# Altium footprint library PcbLib1.PcbLib: 8 footprints
Each footprint in its own frame and in the unit in brackets; x right, y up, seen from the top. Pads: shape width x height; smd on the part's side, far side on the other; paste and mask are expansions set on the pad; w line width, h text height; cw(c..) or ccw(c..) is an arc to the next point about the centre after c.
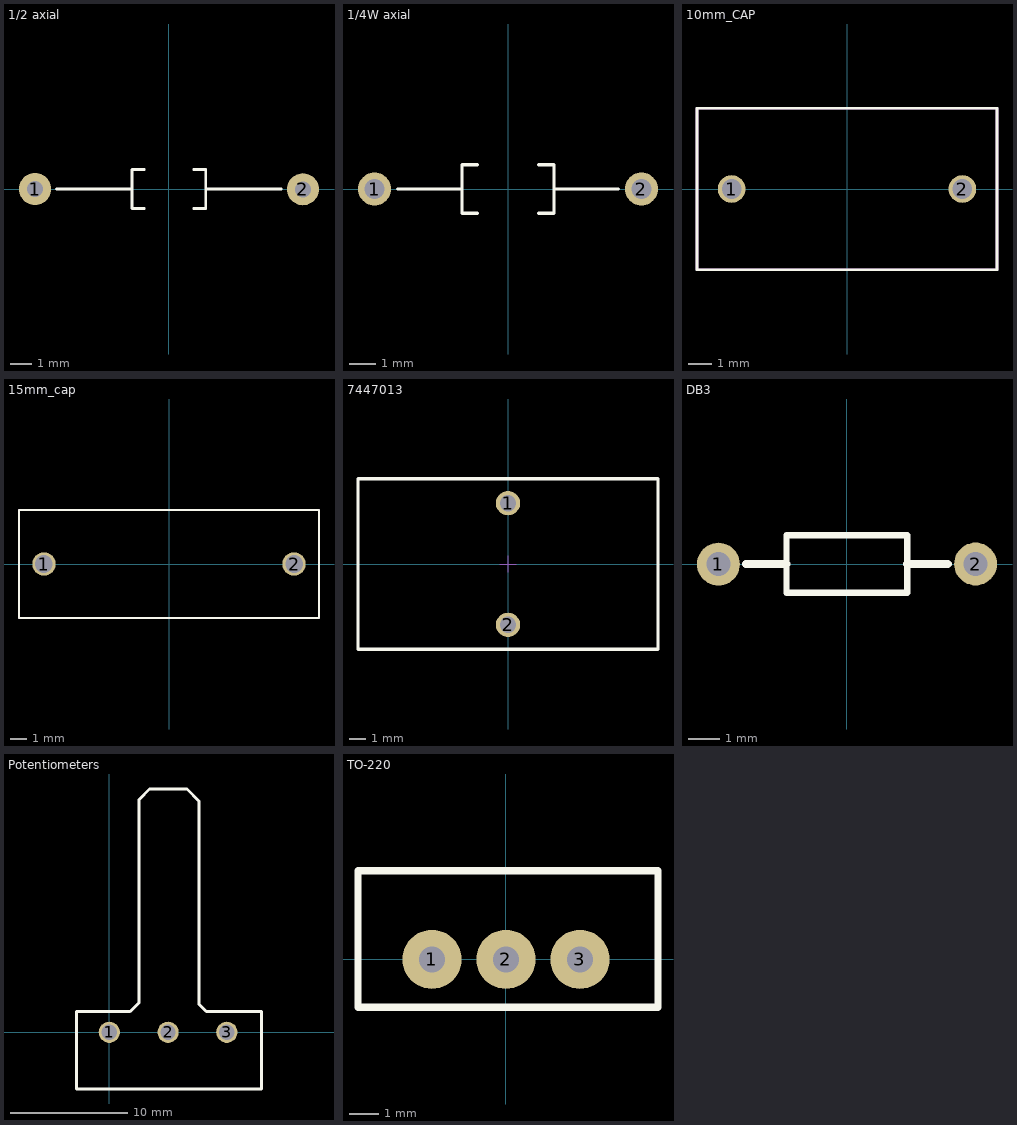
[diagram p0: the footprints below, top view; thin cyan lines are the x and y axes]

## 1/2 axial [mil]
pads (2):
  round 60 hole 30: 1(-250,0) 2(250.27,-0.55)
Top Overlay:
  lines w5: -210,0 -68.9,0 ; -46.06,-36.42 -68.9,-36.42 -68.9,0 ; -46.06,36.42 -68.9,36.42 -68.9,0 ; 46.06,-36.42 68.9,-36.42 68.9,0 ; 46.06,36.42 68.9,36.42 68.9,0 ; 210,0 68.9,0
3D body "User Library-Res50-Axial 0_5W-2_2M.STEP": height 148.14, standoff -220.96, extent -264.76,-73.82 264.76,73.82

## 1/4W axial [mm]
pads (2):
  round 1.258 hole 0.75: 1(-5.08,0) 2(5.08,0)
Top Overlay:
  lines w0.127: -4.191,0 -1.75,0 ; -1.17,-0.925 -1.75,-0.925 -1.75,0 ; -1.17,0.925 -1.75,0.925 -1.75,0 ; 1.17,-0.925 1.75,-0.925 1.75,0 ; 1.17,0.925 1.75,0.925 1.75,0 ; 4.191,0 1.75,0
3D body "User Library-Res40-Axial 0_25W-1R.STEP": height 2.41, standoff -2, extent -5.38,-1.191 5.38,1.191

## 10mm_CAP [mm]
pads (2):
  round 1.2 hole 0.85: 1(-5,0) 2(5,0)
Top Overlay:
  lines w0.127: -6.5,-3.5 -6.5,3.5 6.5,3.5 6.5,-3.5 -6.5,-3.5
Mechanical 13:
  lines w0.127: -6.5,-3.5 6.5,-3.5 6.5,3.5 -6.5,3.5 -6.5,-3.5
3D body "ECW-F2W274KAQ.STEP": height 16.1, standoff -5, extent -6.5,-3.5 6.5,3.5

## 15mm_cap [mm]
pads (2):
  round 1.4 hole 1.05: 1(-7.5,0) 2(7.5,0)
Top Overlay:
  lines w0.127: -9,-3.25 9,-3.25 9,3.25 -9,3.25 -9,-3.25
Mechanical 13:
  lines w0.127: -9,-3.25 -9,3.25 9,3.25 9,-3.25 -9,-3.25
3D body "ECW-H16222JV.STEP": height 15, standoff -23.5, extent -9,-3.25 9,3.25

## 7447013 [mm] "Leaded Toroidal Line Choke, 2-leads, body 18.5x10.5mm"
height 18.5
pads (2):
  round 1.5 hole 1: 1(0,3.75) 2(0,-3.75)
Top Overlay:
  lines w0.2: -9.25,-5.25 9.25,-5.25 9.25,5.25 -9.25,5.25 -9.25,-5.25
Top 3D Body:
  lines w0.1: -9.25,-5.25 -9.25,5.25 9.25,5.25 9.25,-5.25 -9.25,-5.25
Top Courtyard:
  lines w0.05: -0.5,0 0.5,0 ; 0,-0.5 0,0.5
Top Component Outline:
  lines w0.1: -9.25,-5.25 9.25,-5.25 9.25,5.25 -9.25,5.25 -9.25,-5.25
3D body "7447013.stp": height 16.81, standoff -14.93, extent -8.508,-4.15 8.51,4.147

## DB3 [mm]
pads (2):
  round 1.35 hole 0.75: 1(-4.039,-0.005) 2(4.05,0)
Top Overlay:
  lines w0.2: -1.9,-0.9 1.9,-0.9 1.9,0.9 -1.9,0.9 -1.9,-0.9
  lines w0.254: -3.175,0 -1.9,0 ; 1.9,0 3.175,0
3D body "step_temp.STEP": height 2, standoff -26.68, extent -4.303,-1 4.303,1

## Potentiometers [mm]
pads (3):
  round 1.8 hole 1.3: 1(0,0) 2(5,0) 3(10,0)
Top Overlay:
  lines w0.254: -2.794,-4.826 -2.794,1.778 1.778,1.778 2.54,2.54 2.54,19.812 3.429,20.701 5.715,20.701 6.604,20.701 7.62,19.685 7.62,2.413 8.255,1.778 12.954,1.778 12.954,-4.826 -2.794,-4.826
3D body "User Library-Pot.sldprt": height 20.08, standoff -4.56, extent -2.794,-4.826 12.954,20.732

## TO-220 [mil]
pads (3):
  round 80 hole 35.43: 1(-100,0) 2(0,0) 3(100,0)
Top Overlay:
  lines w10: -200,-65 -200,120.04 205.51,120.04 205.51,-65 -200,-65
3D body "User Library-Transistors TO-220F-3FS.STEP": height 782.28, standoff -353.54, extent -199.62,-65 199.62,120.04